# Altium integrated library RF.IntLib: 10 symbols
Pins are listed as number, name and electrical type; pins without a type are passive.

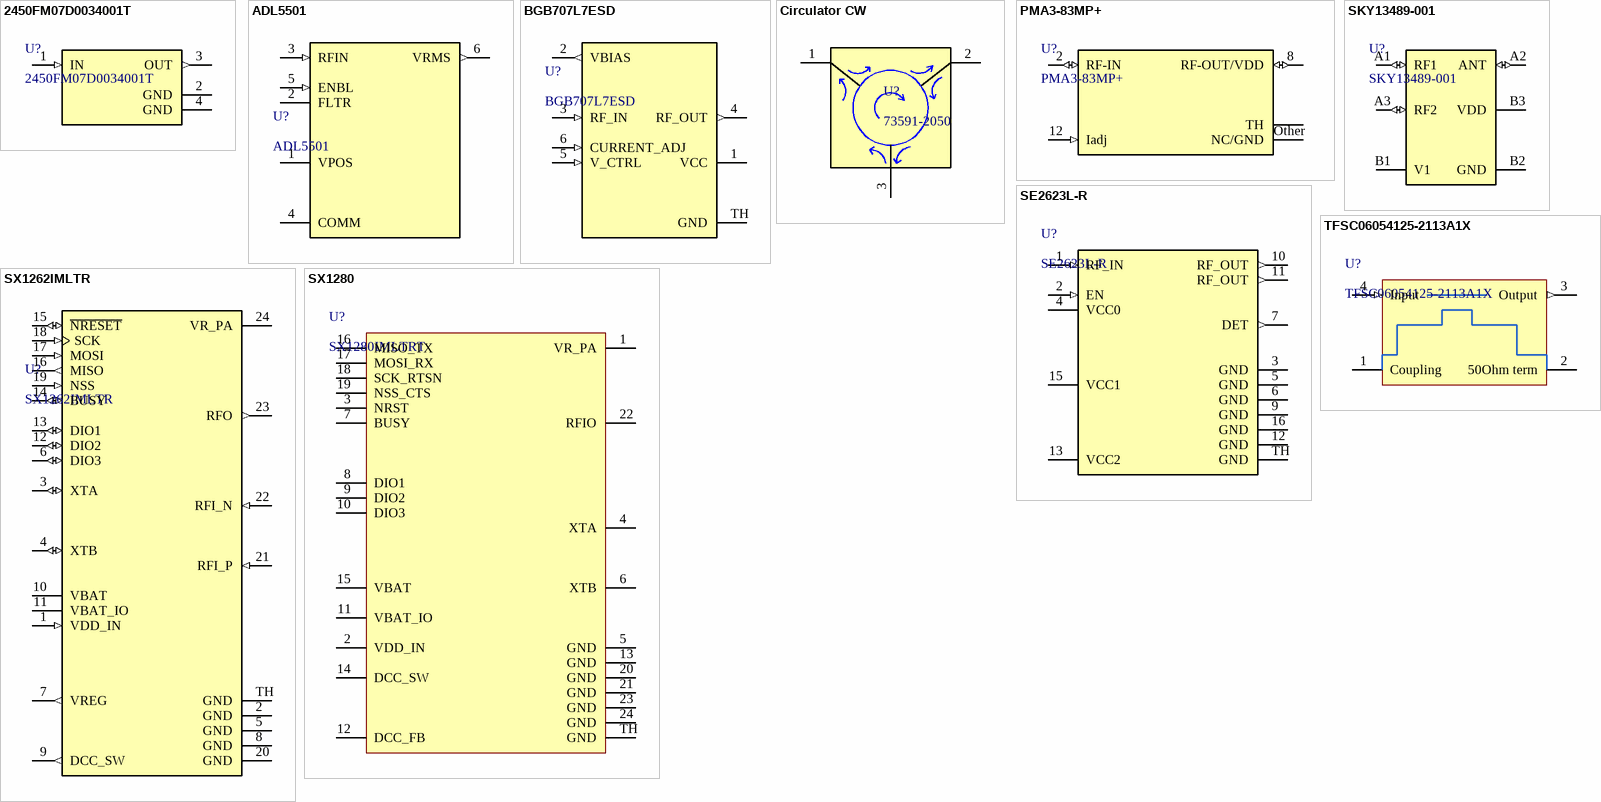
[diagram p0: symbols 2450FM07D0034001T to TFSC06054125-2113A1X]

## 2450FM07D0034001T
designator U?
Filter/Match 2.4GHz SX1280
footprint 0402-4
pins: 1 IN (in), 2 GND (power), 3 OUT (out), 4 GND (power)

## ADL5501
designator U?
RF power detector
footprint SOT-323-6 (SC-70) (TSOP, 6-Leads, Body 2.00x1.25mm, Pitch 0.65mm, IPC Medium Density)
pins: 1 VPOS (power), 2 FLTR, 3 RFIN (in), 4 COMM, 5 ENBL (in), 6 VRMS (out)

## BGB707L7ESD
designator U?
2.4 GHz LNA
footprint TSLP-7-1
pins: 1 VCC (power), 2 VBIAS (out), 3 RF_IN (in), 4 RF_OUT (out), 5 V_CTRL (in), 6 CURRENT_ADJ (in), TH GND (power)

## Circulator CW
designator U?, comment 73591-2050
Circulator
footprint 73591-2050
pins: 1, 2, 3

## PMA3-83MP+
designator U?
PA
footprint DQ1225
pins: 1,3,4,5,6,7,9,10,11 NC/GND, 2 RF-IN (io), 8 RF-OUT/VDD (io), 12 Iadj (in), TH
text: Other

## SE2623L-R
designator U?
2.4 GHz PA
footprint QFN-16(3x3)
pins: 1 RF_IN (in), 2 EN (in), 3 GND (power), 4 VCC0 (power), 5 GND (power), 6 GND (power), 7 DET (out), 9 GND (power), 10 RF_OUT (out), 11 RF_OUT (out), 12 GND (power), 13 VCC2 (power), 15 VCC1 (power), 16 GND (power), TH GND (power)

## SKY13489-001
designator U?
RF switch
footprint WLCSP-6
pins: A1 RF1 (io), A2 ANT (io), A3 RF2 (io), B1 V1, B2 GND, B3 VDD

## SX1262IMLTR
designator U?
433 LoRa/FSK
footprint QFN-24(MPU-6050)
pins: 1 VDD_IN (in), 2 GND (power), 3 XTA (io), 4 XTB (io), 5 GND (power), 6 DIO3 (io), 7 VREG (out), 8 GND (power), 9 DCC_SW (out), 10 VBAT (power), 11 VBAT_IO (power), 12 DIO2 (io), 13 DIO1 (io), 14 BUSY (io), 15 ~{NRESET} (io), 16 MISO (out), 17 MOSI (in), 18 SCK (in), 19 NSS (in), 20 GND (power), 21 RFI_P (in), 22 RFI_N (in), 23 RFO (out), 24 VR_PA (power), TH GND (power)

## SX1280
designator U?, comment SX1280IMLTRT
2.4 GHz Lora/FSK/FLRC
footprint QFN-24(4x4)
pins: 1 VR_PA, 2 VDD_IN, 3 NRST, 4 XTA, 5 GND, 6 XTB, 7 BUSY, 8 DIO1, 9 DIO2, 10 DIO3, 11 VBAT_IO, 12 DCC_FB, 13 GND, 14 DCC_SW, 15 VBAT, 16 MISO_TX, 17 MOSI_RX, 18 SCK_RTSN, 19 NSS_CTS, 20 GND, 21 GND, 22 RFIO, 23 GND, 24 GND, TH GND

## TFSC06054125-2113A1X
designator U?
RF directed coupler
footprint EIA 0202
pins: 1 Coupling, 2 50Ohm term, 3 Output (out), 4 Input (in)